# Altium schematic symbol library esp32.SchLib: 8 symbols
Pins are listed as number, name and electrical type; pins without a type are passive.

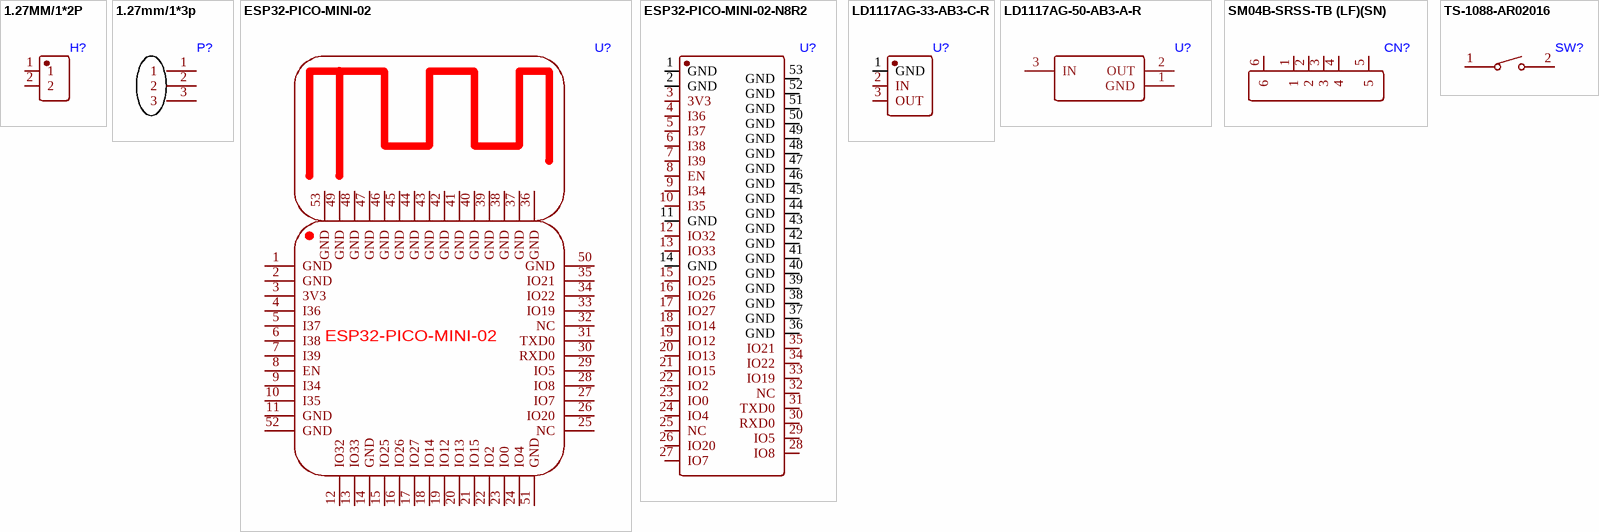
[diagram p0: symbols 1.27MM/1*2P to TS-1088-AR02016]

## 1.27MM/1*2P
designator H?
footprint HDR-TH_2P-P1.27-V-M
pins: 1, 2

## 1.27mm/1*3p
designator P?
footprint HDR-TH_3P-P1.27-V-M-1
pins: 1, 2, 3

## ESP32-PICO-MINI-02
designator U?
ESP32-PICO-MINI-02
footprint BULETM-SMD_ESP32-PICO-MINI-02-N8R2
pins: 1 GND, 2 GND, 3 3V3, 4 I36, 5 I37, 6 I38, 7 I39, 8 EN, 9 I34, 10 I35, 11 GND, 12 IO32, 13 IO33, 14 GND, 15 IO25, 16 IO26, 17 IO27, 18 IO14, 19 IO12, 20 IO13, 21 IO15, 22 IO2, 23 IO0, 24 IO4, 25 NC, 26 IO20, 27 IO7, 28 IO8, 29 IO5, 30 RXD0, 31 TXD0, 32 NC, 33 IO19, 34 IO22, 35 IO21, 36 GND, 37 GND, 38 GND, 39 GND, 40 GND, 41 GND, 42 GND, 43 GND, 44 GND, 45 GND, 46 GND, 47 GND, 48 GND, 49 GND, 50 GND, 51 GND, 52 GND, 53 GND

## ESP32-PICO-MINI-02-N8R2
designator U?
ESP32-PICO-MINI-02-N8R2
footprint BULETM-SMD_ESP32-PICO-MINI-02-N8R2
pins: 1 GND, 2 GND, 3 3V3, 4 I36, 5 I37, 6 I38, 7 I39, 8 EN, 9 I34, 10 I35, 11 GND, 12 IO32, 13 IO33, 14 GND, 15 IO25, 16 IO26, 17 IO27, 18 IO14, 19 IO12, 20 IO13, 21 IO15, 22 IO2, 23 IO0, 24 IO4, 25 NC, 26 IO20, 27 IO7, 28 IO8, 29 IO5, 30 RXD0, 31 TXD0, 32 NC, 33 IO19, 34 IO22, 35 IO21, 36 GND, 37 GND, 38 GND, 39 GND, 40 GND, 41 GND, 42 GND, 43 GND, 44 GND, 45 GND, 46 GND, 47 GND, 48 GND, 49 GND, 50 GND, 51 GND, 52 GND, 53 GND

## LD1117AG-33-AB3-C-R
designator U?
3.3V稳压
footprint SOT-89_L4.5-W2.5-P1.50-LS4.2-BR
pins: 1 GND, 2 IN, 3 OUT

## LD1117AG-50-AB3-A-R
designator U?
5V稳压
footprint SOT-89_L4.5-W2.5-P1.50-LS4.2-BR
pins: 1 GND, 2 OUT, 3 IN

## SM04B-SRSS-TB (LF)(SN)
designator CN?
4pin 1mm 插座
footprint CONN-SMD_4P-P1.00_SM04B-SRSS-TB-LF-SN
pins: 1, 2, 3, 4, 5, 6

## TS-1088-AR02016
designator SW?
按键开关
footprint SW-SMD_L4.0-W2.9-LS5.0
pins: 1, 2